# EAGLE library part WE-LAN_7490200136 (library wurth_elektronik_passive_rev16d)
WE-LAN LAN Transformer 10/100 Base T - Compliant with IEEE 802.3, IEEE 802.3af and IEEE 802.3at standards - SMT -- Ethernet -- Power over Ethernet -- 1 Gigabit Ethernet -- Compliant with most IC's for ethernet applications like Intel, AMD, Globespan and Realtek -- Hub, Router, Switch <http://katalog.we-online.de/media/images/v2/Family_WE-LAN.jpg> Details see: http://katalog.we-online.de/en/pbs/WE-LAN/7490100111A 2016 (C) Würth Elektronik
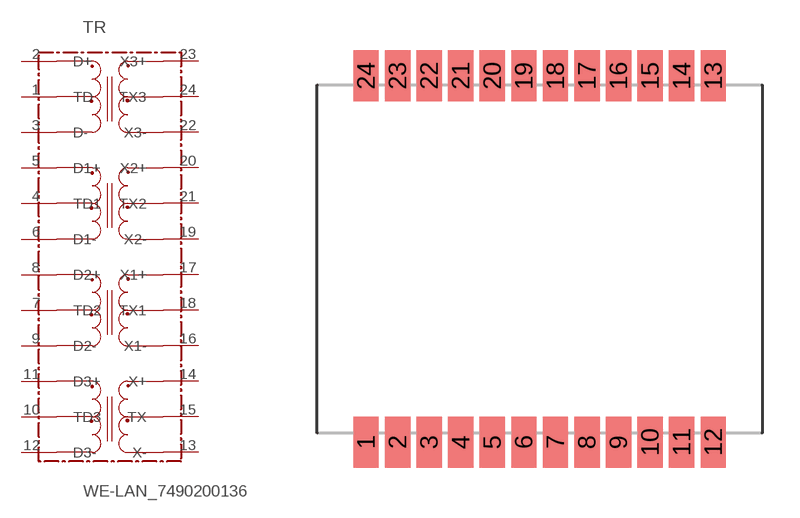
[diagram p219: symbol with the pads of 7490200136; footprint 7490200136]

Designator prefix TR

## WE-LAN_7490200136  [7490200136]
1  TD
2  D+
3  D-
4  TD1
5  D1+
6  D1-
7  TD2
8  D2+
9  D2-
10  TD3
11  D3+
12  D3-
13  X-
14  X+
15  TX
16  X1-
17  X1+
18  TX1
19  X2-
20  X2+
21  TX2
22  X3-
23  X3+
24  TX3

## Footprint 7490200136 (pad centres in mm)
smd 1.02 x 2.05: 1 -6.985,-7.365; 2 -5.715,-7.365; 3 -4.445,-7.365; 4 -3.175,-7.365; 5 -1.905,-7.365; 6 -0.635,-7.365; 7 0.635,-7.365; 8 1.905,-7.365; 9 3.175,-7.365; 10 4.445,-7.365; 11 5.715,-7.365; 12 6.985,-7.365; 13 6.985,7.365; 14 5.715,7.365; 15 4.445,7.365; 16 3.175,7.365; 17 1.905,7.365; 18 0.635,7.365; 19 -0.635,7.365; 20 -1.905,7.365; 21 -3.175,7.365; 22 -4.445,7.365; 23 -5.715,7.365; 24 -6.985,7.365